# Altium footprint library Connector_PinHeader_2.54mm.PcbLib: 25 footprints (part 2 of 2)
Each footprint in its own frame and in the unit in brackets; x right, y up, seen from the top. Pads: shape width x height; smd on the part's side, far side on the other; paste and mask are expansions set on the pad; w line width, h text height; cw(c..) or ccw(c..) is an arc to the next point about the centre after c.
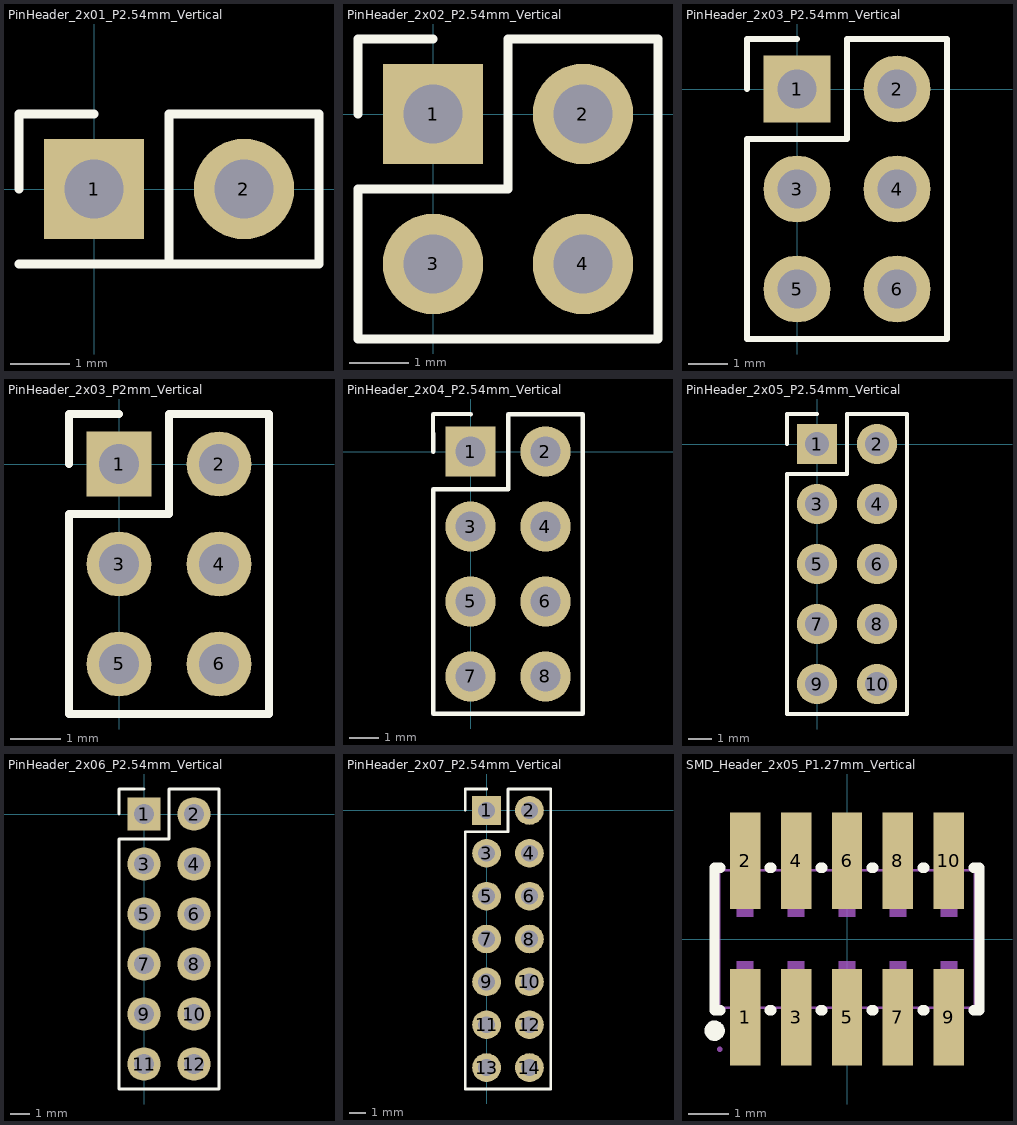
[diagram p1: the footprints below, top view; thin cyan lines are the x and y axes]

## PinHeader_2x01_P2.54mm_Vertical [mm]
pads (2):
  rect 1.7x1.7 hole 1: 1(0,0)
  round 1.7 hole 1: 2(2.54,0)
Top Overlay:
  lines w0.152: -1.27,-1.27 1.27,-1.27 ; -1.27,0 -1.27,1.27 0,1.27 ; 1.27,-1.27 1.27,1.27 3.81,1.27 3.81,-1.27 1.27,-1.27
3D body "PinHeader_1x02_P2.54mm_Vertical.step": height 8.54, standoff -3, extent -1.27,-1.27 3.81,1.27

## PinHeader_2x02_P2.54mm_Vertical [mm]
pads (4):
  rect 1.7x1.7 hole 1: 1(0,0)
  round 1.7 hole 1: 2(2.54,0) 3(0,-2.54) 4(2.54,-2.54)
Top Overlay:
  lines w0.152: -1.27,0 -1.27,1.27 0,1.27 ; -1.27,-3.81 -1.27,-1.27 1.27,-1.27 1.27,1.27 3.81,1.27 3.81,-3.81 -1.27,-3.81
3D body "PinHeader_2x02_P2.54mm_Vertical.step": height 8.54, standoff -3, extent -1.27,-3.81 3.81,1.27

## PinHeader_2x03_P2.54mm_Vertical [mm]
pads (6):
  rect 1.7x1.7 hole 1: 1(0,0)
  round 1.7 hole 1: 2(2.54,0) 3(0,-2.54) 4(2.54,-2.54) 5(0,-5.08) 6(2.54,-5.08)
Top Overlay:
  lines w0.152: -1.27,0 -1.27,1.27 0,1.27 ; -1.27,-6.35 3.81,-6.35 3.81,1.27 1.27,1.27 1.27,-1.27 -1.27,-1.27 -1.27,-6.35
3D body "PinHeader_2x03_P2.54mm_Vertical.step": height 8.54, standoff -3, extent -1.27,-6.35 3.81,1.27

## PinHeader_2x03_P2mm_Vertical [mm]
pads (6):
  rect 1.3x1.3 hole 0.8: 1(0,0)
  round 1.3 hole 0.8: 2(2,0) 3(0,-2) 4(2,-2) 5(0,-4) 6(2,-4)
Top Overlay:
  lines w0.152: -1,0 -1,1 0,1 ; -1,-5 3,-5 3,1 1,1 1,-1 -1,-1 -1,-5
3D body "PinHeader_2x03_P2.00mm_Vertical.step": height 6, standoff -2.8, extent -1,-5 3,1

## PinHeader_2x04_P2.54mm_Vertical [mm]
pads (8):
  rect 1.7x1.7 hole 1: 1(0,0)
  round 1.7 hole 1: 2(2.54,0) 3(0,-2.54) 4(2.54,-2.54) 5(0,-5.08) 6(2.54,-5.08) 7(0,-7.62) 8(2.54,-7.62)
Top Overlay:
  lines w0.152: -1.27,0 -1.27,1.27 0,1.27 ; -1.27,-8.89 3.81,-8.89 3.81,1.27 1.27,1.27 1.27,-1.27 -1.27,-1.27 -1.27,-8.89
3D body "PinHeader_2x04_P2.54mm_Vertical.step": height 8.54, standoff -3, extent -1.27,-8.89 3.81,1.27

## PinHeader_2x05_P2.54mm_Vertical [mm]
pads (10):
  rect 1.7x1.7 hole 1: 1(0,0)
  round 1.7 hole 1: 2(2.54,0) 3(0,-2.54) 4(2.54,-2.54) 5(0,-5.08) 6(2.54,-5.08) 7(0,-7.62) 8(2.54,-7.62) 9(0,-10.16) 10(2.54,-10.16)
Top Overlay:
  lines w0.152: -1.27,0 -1.27,1.27 0,1.27 ; -1.27,-11.43 3.81,-11.43 3.81,1.27 1.27,1.27 1.27,-1.27 -1.27,-1.27 -1.27,-11.43
3D body "PinHeader_2x05_P2.54mm_Vertical.step": height 8.54, standoff -3, extent -1.27,-11.43 3.81,1.27

## PinHeader_2x06_P2.54mm_Vertical [mm]
pads (12):
  rect 1.7x1.7 hole 1: 1(0,0)
  round 1.7 hole 1: 2(2.54,0) 3(0,-2.54) 4(2.54,-2.54) 5(0,-5.08) 6(2.54,-5.08) 7(0,-7.62) 8(2.54,-7.62) 9(0,-10.16) 10(2.54,-10.16) 11(0,-12.7) 12(2.54,-12.7)
Top Overlay:
  lines w0.152: -1.27,0 -1.27,1.27 0,1.27 ; -1.27,-13.97 -1.27,-1.27 1.27,-1.27 1.27,1.27 3.81,1.27 3.81,-13.97 -1.27,-13.97
3D body "PinHeader_2x06_P2.54mm_Vertical.step": height 8.54, standoff -3, extent -1.27,-13.97 3.81,1.27

## PinHeader_2x07_P2.54mm_Vertical [mm]
pads (14):
  rect 1.7x1.7 hole 1: 1(0,0)
  round 1.7 hole 1: 2(2.54,0) 3(0,-2.54) 4(2.54,-2.54) 5(0,-5.08) 6(2.54,-5.08) 7(0,-7.62) 8(2.54,-7.62) 9(0,-10.16) 10(2.54,-10.16) 11(0,-12.7) 12(2.54,-12.7) 13(0,-15.24) 14(2.54,-15.24)
Top Overlay:
  lines w0.152: -1.27,0 -1.27,1.27 0,1.27 ; -1.27,-16.51 3.81,-16.51 3.81,1.27 1.27,1.27 1.27,-1.27 -1.27,-1.27 -1.27,-16.51
3D body "PinHeader_2x07_P2.54mm_Vertical.step": height 8.54, standoff -3, extent -1.27,-16.51 3.81,1.27

## SMD_Header_2x05_P1.27mm_Vertical [mil]
pads (10):
  rect 29.9x94.5 smd mask+2: 1(-100,-76.8) 2(-100,76.8) 3(-50,-76.8) 4(-50,76.8) 5(0,-76.8) 6(0,76.8) 7(50,-76.8) 8(50,76.8) 9(100,-76.8) 10(100,76.8)
Top Overlay:
  circle w10: c-130,-90 r5
  lines w10: -124.1,-70 -130,-70 -130,70 -124.1,70 ; -75.9,-70 -74.1,-70 ; -75.9,70 -74.1,70 ; -25.9,-70 -24.1,-70 ; -25.9,70 -24.1,70 ; 24.1,-70 25.9,-70 ; 24.1,70 25.9,70 ; 74.1,-70 75.9,-70 ; 74.1,70 75.9,70 ; 124.1,-70 130,-70 130,70 124.1,70
Mechanical 15:
  region: 91.9,-21.7 108.1,-21.7 108.1,-108.3 91.9,-108.3
  region: 41.9,-21.7 58.1,-21.7 58.1,-108.3 41.9,-108.3
  region: -8.1,-21.7 8.1,-21.7 8.1,-108.3 -8.1,-108.3
  region: -58.1,-21.7 -41.9,-21.7 -41.9,-108.3 -58.1,-108.3
  region: -108.1,-21.7 -91.9,-21.7 -91.9,-108.3 -108.1,-108.3
  region: 91.9,108.3 108.1,108.3 108.1,21.7 91.9,21.7
  region: 41.9,108.3 58.1,108.3 58.1,21.7 41.9,21.7
  region: -8.1,108.3 8.1,108.3 8.1,21.7 -8.1,21.7
  region: -58.1,108.3 -41.9,108.3 -41.9,21.7 -58.1,21.7
  region: -108.1,108.3 -91.9,108.3 -91.9,21.7 -108.1,21.7
  region: -122.6,-108.3 -122.6,-107.31 -124.01,-105.9 -125.99,-105.9 -127.4,-107.31 -127.4,-108.3 -127.4,-109.29 -125.99,-110.7 -124.01,-110.7 -122.6,-109.29 -122.6,-108.3
  lines w2: -125,-67.5 125,-67.5 125,67.5 -125,67.5 -125,-67.5
3D body "U1.stp": height 185.4, standoff 0, extent -125.37,-108.25 124.98,108.25